# EAGLE library part 687318124422 (library Eagle_FPC_CONNECTOR_AND_FFC_CAB (rev18c))
WR-FPC-0.50mm SMT ZIF Vertical Type A,pins 18 Pins =>Code : Con_FPC_ZIF_0.50_687318124422 <http://katalog.we-online.de/media/images/eican/Con_FPC_ZIF_0.50_6873xx124422_pf2.jpg> Details see: http://katalog.we-online.de/en/em/687_3xx_124_422 Created 2014-07-09, Karrer Zheng 2014 (C) Würth Elektronik
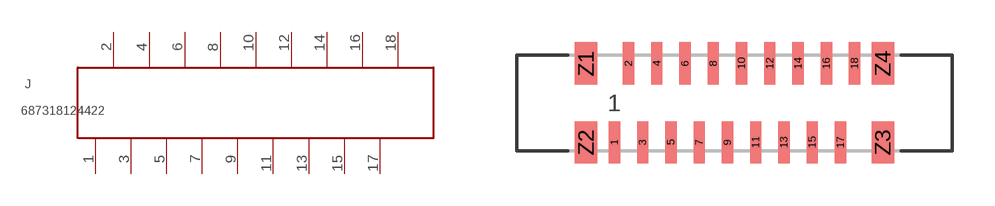
[diagram p79: symbol with the pads of 687318124422; footprint 687318124422]

Designator prefix J

## 687318124422  [687318124422]
1  1  pas
2  2  pas
3  3  pas
4  4  hiz
5  5  pas
6  6  pas
7  7  pas
8  8  pas
9  9  pas
10  10  pas
11  11  pas
12  12  pas
13  13  pas
14  14  pas
15  15  pas
16  16  pas
17  17  pas
18  18  pas

## Footprint 687318124422 (pad centres in mm)
WR-FPC-0.50mm SMT ZIF Vertical Type A,pins 18
smd 0.4 x 1.5: 1 -4.25,-1.4; 2 -3.75,1.4; 3 -3.25,-1.4; 4 -2.75,1.4; 5 -2.25,-1.4; 6 -1.75,1.4; 7 -1.25,-1.4; 8 -0.75,1.4; 9 -0.25,-1.4; 10 0.25,1.4; 11 0.75,-1.4; 12 1.25,1.4; 13 1.75,-1.4; 14 2.25,1.4; 15 2.75,-1.4; 16 3.25,1.4; 17 3.75,-1.4; 18 4.25,1.4
smd 0.8 x 1.5: Z1 -5.25,1.4; Z2 -5.25,-1.4; Z3 5.25,-1.4; Z4 5.25,1.4